# Altium footprint library Opto.PcbLib: 5 footprints
Each footprint in its own frame and in the unit in brackets; x right, y up, seen from the top. Pads: shape width x height; smd on the part's side, far side on the other; paste and mask are expansions set on the pad; w line width, h text height; cw(c..) or ccw(c..) is an arc to the next point about the centre after c.
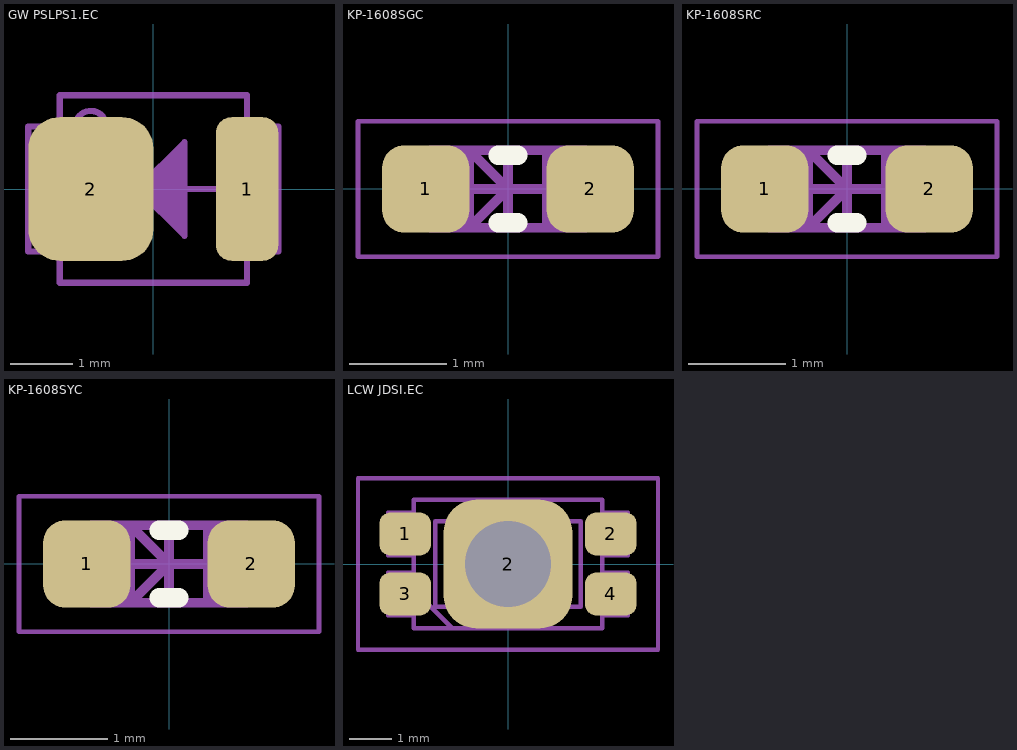
[diagram p0: the footprints below, top view; thin cyan lines are the x and y axes]

## GW PSLPS1.EC [mm]
pads (2):
  rrect50% 1x2.3 smd: 1(1.5,0)
  rrect50% 2x2.3 smd: 2(-1,0)
Mechanical 4:
  text ".Designator" at -1.6,0 h1
Mechanical 13:
  circle w0.1: c-1,1 r0.25
  region: -0.25,0 0.5,0.75 0.5,-0.75
  lines w0.1: -1.5,-1 -1.75,-1 -2,-1 -2,1 -1.5,1 ; -0.75,0 -0.25,0 ; -0.25,-0.75 -0.25,0.75 ; 0.5,0 1,0 ; 1.5,-1 1.75,-1 2,-1 2,1 1.5,1 ; -0.25,0 0.5,-0.75 0.5,0.75 -0.25,0 ; -0.25,0 -0.25,0 ; -1.5,-1.5 1.5,-1.5 1.5,1.5 -1.5,1.5 -1.5,-1.5
3D body: height 0.5, standoff 0, extent -1.5,-1.5 1.5,1.5
3D body: height 0.7, standoff 0.5, extent -1.29,-1.297 1.3,1.298
3D body: height 0.6, standoff 0.5, extent -1.238,0.848 -0.84,1.247

## KP-1608SGC [mm] "Chip LED, 2-Leads, Body 1.60x0.80x1.10mm, IPC Medium Density"
height 1.1
pads (2):
  rrect50% 0.9x0.9 smd: 1(-0.85,0) 2(0.85,0)
Top Overlay:
  lines w0.2: -0.1,-0.35 0.1,-0.35 ; -0.1,0.35 0.1,0.35
Mechanical 4:
  text ".Designator" at -1.6,0 h1
Mechanical 13:
  lines w0.1: 0.4,-0.4 0.4,0.4 ; -0.8,-0.4 -0.8,0.4 0.8,0.4 0.8,-0.4 -0.8,-0.4 ; -0.4,-0.4 0,0 -0.4,0.4 -0.4,-0.4
Mechanical 15:
  lines w0.05: -1.55,-0.7 1.55,-0.7 1.55,0.7 -1.55,0.7 -1.55,-0.7
  lines w0.1: -0.4,0 0.4,0 ; 0,-0.4 0,0.4
3D body: height 0.5, standoff 0, extent 0.4,-0.4 0.8,0.4
3D body: height 0.5, standoff 0, extent -0.8,-0.4 -0.4,0.4
3D body: height 0.5, standoff 0, extent -0.4,-0.4 0.4,0.4
3D body: height 1.1, standoff 0.5, extent -0.6,-0.4 0.6,0.4

## KP-1608SRC [mm] "Chip LED, 2-Leads, Body 1.60x0.80x1.10mm, IPC Medium Density"
height 1.1
pads (2):
  rrect50% 0.9x0.9 smd: 1(-0.85,0) 2(0.85,0)
Top Overlay:
  lines w0.2: -0.1,-0.35 0.1,-0.35 ; -0.1,0.35 0.1,0.35
Mechanical 4:
  text ".Designator" at -1.6,0 h1
Mechanical 13:
  lines w0.1: 0.4,-0.4 0.4,0.4 ; -0.8,-0.4 -0.8,0.4 0.8,0.4 0.8,-0.4 -0.8,-0.4 ; -0.4,-0.4 0,0 -0.4,0.4 -0.4,-0.4
Mechanical 15:
  lines w0.05: -1.55,-0.7 1.55,-0.7 1.55,0.7 -1.55,0.7 -1.55,-0.7
  lines w0.1: -0.4,0 0.4,0 ; 0,-0.4 0,0.4
3D body: height 0.5, standoff 0, extent 0.4,-0.4 0.8,0.4
3D body: height 0.5, standoff 0, extent -0.8,-0.4 -0.4,0.4
3D body: height 0.5, standoff 0, extent -0.4,-0.4 0.4,0.4
3D body: height 1.1, standoff 0.5, extent -0.6,-0.4 0.6,0.4

## KP-1608SYC [mm] "Chip LED, 2-Leads, Body 1.60x0.80x1.10mm, IPC Medium Density"
height 1.1
pads (2):
  rrect50% 0.9x0.9 smd: 1(-0.85,0) 2(0.85,0)
Top Overlay:
  lines w0.2: -0.1,-0.35 0.1,-0.35 ; -0.1,0.35 0.1,0.35
Mechanical 4:
  text ".Designator" at -1.6,0 h1
Mechanical 13:
  lines w0.1: 0.4,-0.4 0.4,0.4 ; -0.8,-0.4 -0.8,0.4 0.8,0.4 0.8,-0.4 -0.8,-0.4 ; -0.4,-0.4 0,0 -0.4,0.4 -0.4,-0.4
Mechanical 15:
  lines w0.05: -1.55,-0.7 1.55,-0.7 1.55,0.7 -1.55,0.7 -1.55,-0.7
  lines w0.1: -0.4,0 0.4,0 ; 0,-0.4 0,0.4
3D body: height 0.5, standoff 0, extent 0.4,-0.4 0.8,0.4
3D body: height 0.5, standoff 0, extent -0.8,-0.4 -0.4,0.4
3D body: height 0.5, standoff 0, extent -0.4,-0.4 0.4,0.4
3D body: height 1.1, standoff 0.5, extent -0.6,-0.4 0.6,0.4

## LCW JDSI.EC [mm]
pads (5):
  rrect50% 1.2x1 smd: 1(-2.4,0.7) 2(2.4,0.7) 3(-2.4,-0.7) 4(2.4,-0.7)
  rrect50% 3x3 hole 2: 2(0,0)
Mechanical 4:
  text ".Designator" at -2.6,0 h1
Mechanical 13:
  lines w0.1: -2.2,-1.2 -2.8,-1.2 -2.8,-0.2 -2.2,-0.2 ; -2.2,-0.6 -1.3,-1.5 ; -2.2,0.2 -2.8,0.2 -2.8,1.2 -2.2,1.2 ; 2.2,-1.2 2.8,-1.2 2.8,-0.2 2.2,-0.2 ; 2.2,0.2 2.8,0.2 2.8,1.2 2.2,1.2 ; -2.2,-1.5 2.2,-1.5 2.2,1.5 -2.2,1.5 -2.2,-1.5 ; -1.7,-1 1.7,-1 1.7,1 -1.7,1 -1.7,-1
Mechanical 15:
  lines w0.1: -0.5,0 0.5,0 ; 0,-0.5 0,0.5 ; -3.5,-2 3.5,-2 3.5,2 -3.5,2 -3.5,-2
3D body: height 0.8, standoff 0.3, extent -2.1,-1.4 2.1,1.4
3D body: height 0.9, standoff 0.8, extent -1.9,-1.2 1.9,1.2
3D body: height 0.3, standoff 0, extent -2.2,-1.5 2.2,1.5
3D body: height 0.3, standoff 0, extent -2.3,0.2 -2.2,1.2
3D body: height 0.3, standoff 0, extent -2.3,-1.2 -2.2,-0.2
3D body: height 0.3, standoff 0, extent 2.2,-1.2 2.3,-0.2
3D body: height 0.3, standoff 0, extent 2.2,0.2 2.3,1.2